# EAGLE library part AMPSEAL-23POS-HEADER (library cpsmv)
23 position male header, wire-to-board, sealing connector
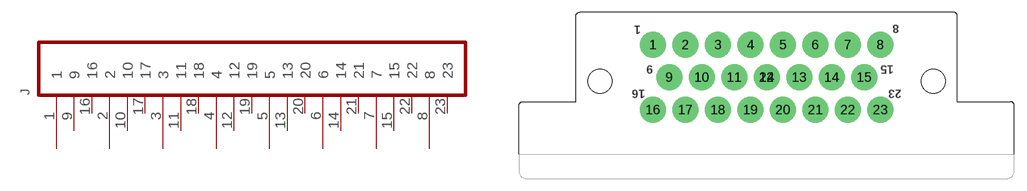
[diagram p2: symbol with the pads of AMPSEAL-HEADER-23POS-RA; footprint AMPSEAL-HEADER-23POS-RA]

Designator prefix J

## AMPSEAL-23POS-HEADER (DATASHEET_LINK: http://www.te.com/commerce/DocumentDelivery/DDEController?Action=srchrtrv&DocNm=776087&DocType=Customer+Drawing&DocLang=English; MANUFACTURER: TE Connectivity; MANUFACTURER_PN: 776087-1; PACKAGE: AMPSEAL-HEADER-23POS-RA; SUPPLIER: Digi-Key; SUPPLIER_PN: A107007-ND)  [AMPSEAL-HEADER-23POS-RA]
1  1
2  2
3  3
4  4
5  5
6  6
7  7
8  8
9  9
10  10
11  11
12  12
13  13
14  14
15  15
16  16
17  17
18  18
19  19
20  20
21  21
22  22
23  23

## Footprint AMPSEAL-HEADER-23POS-RA (pad centres in mm)
drill 1.9 pad 3.2: 1 -14,4; 2 -10,4; 3 -6,4; 4 -2,4; 5 2,4; 6 6,4; 7 10,4; 8 14,4; 9 -12,0; 10 -8,0; 11 -4,0; 12 0,0; 13 4,0; 14 8,0; 15 12,0; 16 -14,-4; 17 -10,-4; 18 -6,-4; 19 -2,-4; 20 2,-4; 21 6,-4; 22 10,-4; 23 14,-4; 24 0,0
hole 2.95 at -20.5,-0.5
hole 2.95 at 20.5,-0.5